# EAGLE library part VA-METER (library va_meter)
Volt-Amp Meter
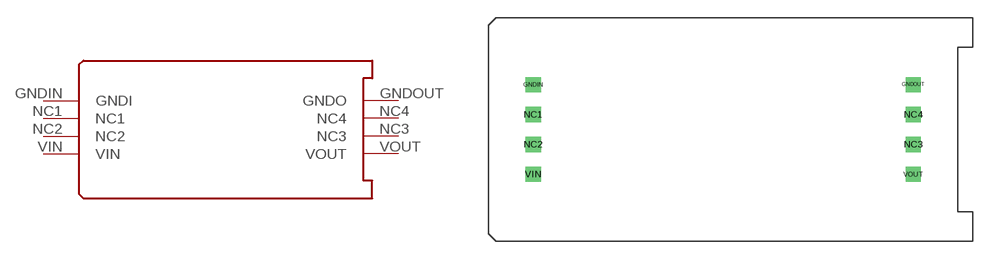
[diagram p0: symbol with the pads of VA_METER; footprint VA_METER]

Designator prefix X

## VA-METER  [VA_METER]
GNDIN  GNDI
GNDOUT  GNDO
NC1  NC1
NC2  NC2
NC3  NC3
NC4  NC4
VIN  VIN
VOUT  VOUT

## Footprint VA_METER (pad centres in mm)
drill 0.8 square: GNDIN -6.35,4.445; GNDOUT 26.035,4.445; NC1 -6.35,1.905; NC2 -6.35,-0.635; NC3 26.035,-0.635; NC4 26.035,1.905; VIN -6.35,-3.175; VOUT 26.035,-3.175